# EAGLE library part 625014230621 (library Wurth_Elektronik_Electromechanic_Wire_to_Board_Connectors_rev16a)
WR-BHD 2.00mm Male SMT Box Header With Lever, 14 pins
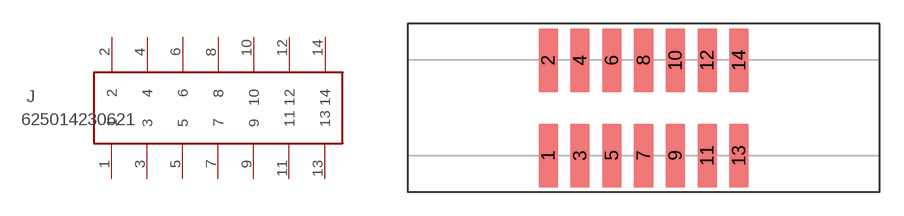
[diagram p221: symbol with the pads of 625014230621; footprint 625014230621]

Designator prefix J

## 625014230621  [625014230621]
1  1  pas
2  2  pas
3  3  pas
4  4  pas
5  5  pas
6  6  pas
7  7  pas
8  8  pas
9  9  pas
10  10  pas
11  11  pas
12  12  pas
13  13  pas
14  14  pas

## Footprint 625014230621 (pad centres in mm)
WR-BHD 2.00mm Male SMT Box Header With Lever, 14 pins
smd 1.2 x 4: 1 -5,-3; 2 -5,3; 3 -3,-3; 4 -3,3; 5 -1,-3; 6 -1,3; 7 1,-3; 8 1,3; 9 3,-3; 10 3,3; 11 5,-3; 12 5,3; 13 7,-3; 14 7,3